# EAGLE library part 74LCX07M (library 74LCX07M)
Buffer/Driver 6-Ch Open Drain SOIC14 74LCX07M, 6-Bit Buffer, LCX, 3-State Non-Inverting 2 5.5 V 14-Pin SOIC <https://componentsearchengine.com/Images/3/74LCX07M.jpg> Source: Datasheet <https://www.fairchildsemi.com/datasheets/74/74LCX07.pdf>
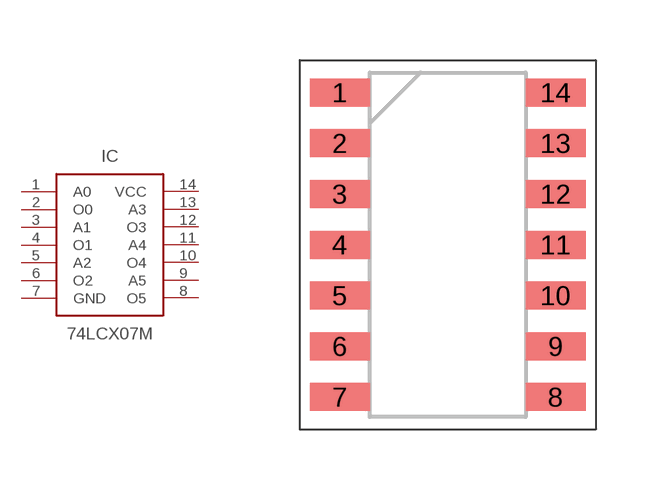
[diagram p0: symbol with the pads of SOIC127P600X175-14N; footprint SOIC127P600X175-14N]

Designator prefix IC

## 74LCX07M (Description: Buffer/Driver 6-Ch Open Drain SOIC14 74LCX07M, 6-Bit Buffer, LCX, 3-State Non-Inverting 2 5.5 V 14-Pin SOIC; Height: 1.75mm; Manufacturer_Name: Fairchild Semiconductor; Manufacturer_Part_Number: 74LCX07M; RS_Part_Number: 1454566; Supplier_Name: RS)  [SOIC127P600X175-14N]
1  A0  in
2  O0  out
3  A1  in
4  O1  out
5  A2  in
6  O2  out
7  GND  pwr
8  O5  out
9  A5  in
10  O4  out
11  A4  in
12  O3  out
13  A3  in
14  VCC  pwr

## Footprint SOIC127P600X175-14N (pad centres in mm)
M14A (SOIC)
smd 1.5 x 0.7: 1 -2.7,3.81; 2 -2.7,2.54; 3 -2.7,1.27; 4 -2.7,0; 5 -2.7,-1.27; 6 -2.7,-2.54; 7 -2.7,-3.81; 8 2.7,-3.81; 9 2.7,-2.54; 10 2.7,-1.27; 11 2.7,0; 12 2.7,1.27; 13 2.7,2.54; 14 2.7,3.81